# EAGLE library part TPD12S016 (library SII164CTG64)
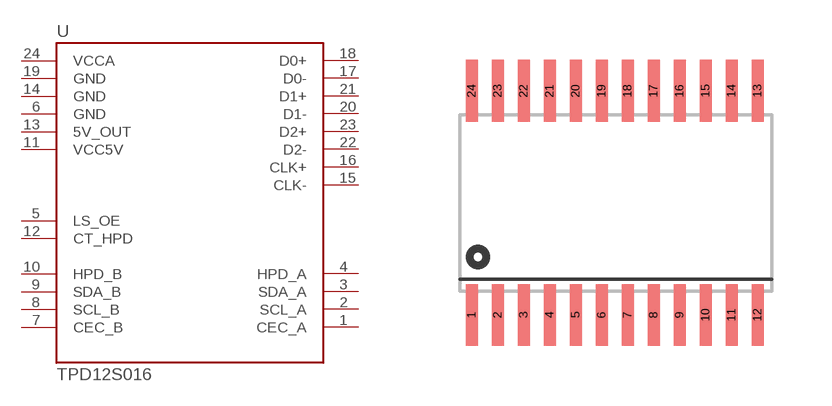
[diagram p1: symbol with the pads of DIL24; footprint DIL24]

Designator prefix -

## TPD12S016  [DIL24]
1  CEC_A
2  SCL_A
3  SDA_A
4  HPD_A
5  LS_OE
6  GND
7  CEC_B
8  SCL_B
9  SDA_B
10  HPD_B
11  VCC5V
12  CT_HPD
13  5V_OUT
14  GND
15  CLK-  pwr
16  CLK+  pwr
17  D0-  pwr
18  D0+  pwr
19  GND
20  D1-  pwr
21  D1+  pwr
22  D2-  pwr
23  D2+  pwr
24  VCCA  pwr

## Footprint DIL24 (pad centres in mm)
smd 0.3 x 1.55: 1 -3.6,-2.8; 2 -2.95,-2.8; 3 -2.3,-2.8; 4 -1.65,-2.8; 5 -1,-2.8; 6 -0.35,-2.8; 7 0.3,-2.8; 8 0.95,-2.8; 9 1.6,-2.8; 10 2.25,-2.8; 11 2.9,-2.8; 12 3.55,-2.8; 13 3.55,2.8; 14 2.9,2.8; 15 2.25,2.8; 16 1.6,2.8; 17 0.95,2.8; 18 0.3,2.8; 19 -0.35,2.8; 20 -1,2.8; 21 -1.65,2.8; 22 -2.3,2.8; 23 -2.95,2.8; 24 -3.6,2.8